# EAGLE library part ATTINY104 (library atmel)
8-bit AVR tiny Microcontroller Status aktiv ATtiny104 General purpose working registers 16 SRAM 32 B Program flash memory 1 kB 16-bit Timer/Counter 1 USART 1 ADC channels 8 ADC resolution 10 bit AC 1 Watchdog 1 General purpose I/O 12 External interrupts 12 Operating voltage 1.8 ... 5.5 V Speed grade 0 ... 4 MHz @ 1.8 ... 5.5 V 0 ... 8 MHz @ 2.7 ... 5.5 V 0 ... 12 MHz @ 4.5 ... 5.5 V Clock options calibrated internal 8 MHz oscillator internal 128 kHz oscillator external clock input
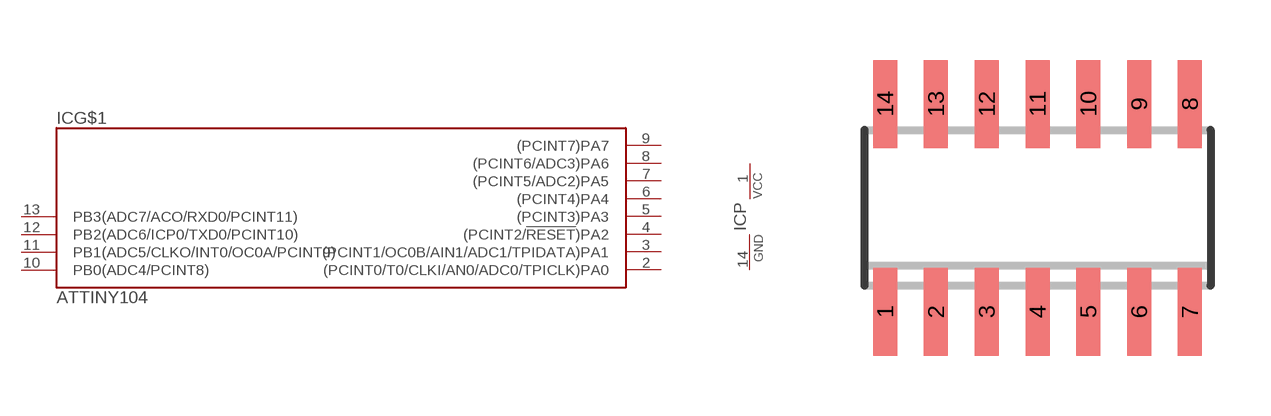
[diagram p83: symbol with the pads of SO14; footprint SO14]

Designator prefix IC; gates G$1=TINY104 P=PWR

## ATTINY104-SSN  [SO14]
1  P:VCC  pwr
2  G$1:(PCINT0/T0/CLKI/AN0/ADC0/TPICLK)PA0
3  G$1:(PCINT1/OC0B/AIN1/ADC1/TPIDATA)PA1
4  G$1:(PCINT2/!RESET!)PA2
5  G$1:(PCINT3)PA3
6  G$1:(PCINT4)PA4
7  G$1:(PCINT5/ADC2)PA5
8  G$1:(PCINT6/ADC3)PA6
9  G$1:(PCINT7)PA7
10  G$1:PB0(ADC4/PCINT8)
11  G$1:PB1(ADC5/CLKO/INT0/OC0A/PCINT9)
12  G$1:PB2(ADC6/ICP0/TXD0/PCINT10)
13  G$1:PB3(ADC7/ACO/RXD0/PCINT11)
14  P:GND  pwr

## ATTINY104-SSF  [SO14]
Pads as for SO14

## Footprint SO14 (pad centres in mm)
Small Outline IC, 150mil body width, 50mil lead pitch package/pad dimensions according to IPC-SM-782, RLP No. 302A JEDEC: MS-012 AB IPC: SO14 other notations: SO-14, SOIC14, SOIC-14
smd 0.6 x 2.2: 1 -3.81,-2.6; 2 -2.54,-2.6; 3 -1.27,-2.6; 4 0,-2.6; 5 1.27,-2.6; 6 2.54,-2.6; 7 3.81,-2.6; 8 3.81,2.6; 9 2.54,2.6; 10 1.27,2.6; 11 0,2.6; 12 -1.27,2.6; 13 -2.54,2.6; 14 -3.81,2.6